# EAGLE library part MSC9S08JM60 (library freescale)
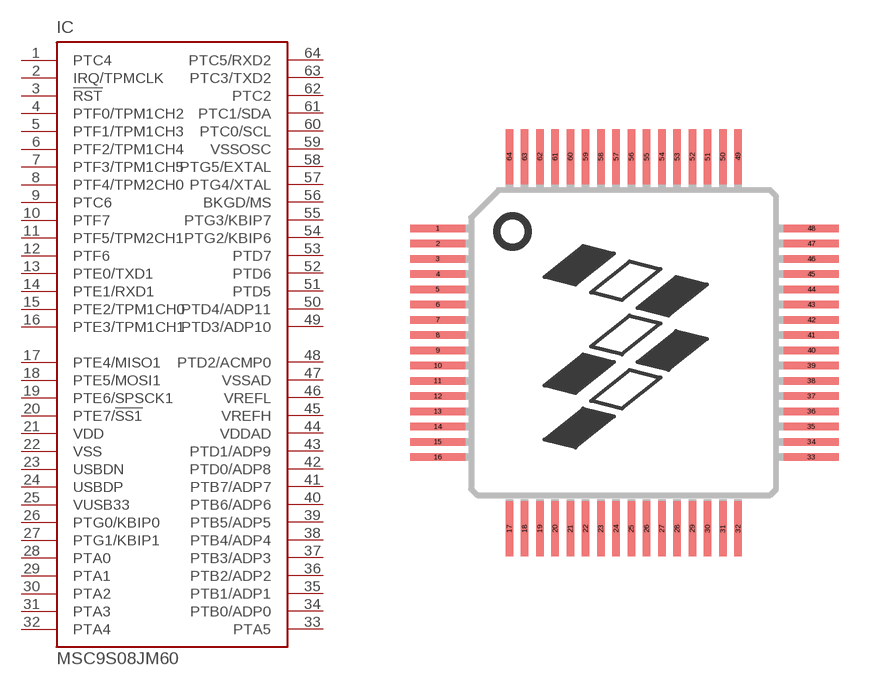
[diagram p7: symbol with the pads of QFP64LD; footprint QFP64LD]

Designator prefix IC

## MSC9S08JM60  [QFP64LD]
1  PTC4
2  IRQ/TPMCLK
3  !RST  in
4  PTF0/TPM1CH2
5  PTF1/TPM1CH3
6  PTF2/TPM1CH4
7  PTF3/TPM1CH5
8  PTF4/TPM2CH0
9  PTC6
10  PTF7
11  PTF5/TPM2CH1
12  PTF6
13  PTE0/TXD1
14  PTE1/RXD1
15  PTE2/TPM1CH0
16  PTE3/TPM1CH1
17  PTE4/MISO1
18  PTE5/MOSI1
19  PTE6/SPSCK1
20  PTE7/!SS1
21  VDD  pwr
22  VSS  pwr
23  USBDN
24  USBDP
25  VUSB33
26  PTG0/KBIP0
27  PTG1/KBIP1
28  PTA0
29  PTA1
30  PTA2
31  PTA3
32  PTA4
33  PTA5
34  PTB0/ADP0
35  PTB1/ADP1  pas
36  PTB2/ADP2  pas
37  PTB3/ADP3
38  PTB4/ADP4
39  PTB5/ADP5
40  PTB6/ADP6
41  PTB7/ADP7
42  PTD0/ADP8
43  PTD1/ADP9
44  VDDAD  pwr
45  VREFH  pwr
46  VREFL  pwr
47  VSSAD  pwr
48  PTD2/ACMP0  pwr
49  PTD3/ADP10
50  PTD4/ADP11
51  PTD5
52  PTD6
53  PTD7
54  PTG2/KBIP6
55  PTG3/KBIP7
56  BKGD/MS
57  PTG4/XTAL
58  PTG5/EXTAL
59  VSSOSC  pwr
60  PTC0/SCL
61  PTC1/SDA
62  PTC2
63  PTC3/TXD2
64  PTC5/RXD2

## Footprint QFP64LD (pad centres in mm)
smd 1.8 x 0.25: 1 -6.1,3.75; 2 -6.1,3.25; 3 -6.1,2.75; 4 -6.1,2.25; 5 -6.1,1.75; 6 -6.1,1.25; 7 -6.1,0.75; 8 -6.1,0.25; 9 -6.1,-0.25; 10 -6.1,-0.75; 11 -6.1,-1.25; 12 -6.1,-1.75; 13 -6.1,-2.25; 14 -6.1,-2.75; 15 -6.1,-3.25; 16 -6.1,-3.75; 33 6.15,-3.75; 34 6.15,-3.25; 35 6.15,-2.75; 36 6.15,-2.25; 37 6.15,-1.75; 38 6.15,-1.25; 39 6.15,-0.75; 40 6.15,-0.25; 41 6.15,0.25; 42 6.15,0.75; 43 6.15,1.25; 44 6.15,1.75; 45 6.15,2.25; 46 6.15,2.75; 47 6.15,3.25; 48 6.15,3.75
smd 0.25 x 1.8: 17 -3.75,-6.1; 18 -3.25,-6.1; 19 -2.75,-6.1; 20 -2.25,-6.1; 21 -1.75,-6.1; 22 -1.25,-6.1; 23 -0.75,-6.1; 24 -0.25,-6.1; 25 0.25,-6.1; 26 0.75,-6.1; 27 1.25,-6.1; 28 1.75,-6.1; 29 2.25,-6.1; 30 2.75,-6.1; 31 3.25,-6.1; 32 3.75,-6.1; 49 3.75,6.1; 50 3.25,6.1; 51 2.75,6.1; 52 2.25,6.1; 53 1.75,6.1; 54 1.25,6.1; 55 0.75,6.1; 56 0.25,6.1; 57 -0.25,6.1; 58 -0.75,6.1; 59 -1.25,6.1; 60 -1.75,6.1; 61 -2.25,6.1; 62 -2.75,6.1; 63 -3.25,6.1; 64 -3.75,6.1